# EAGLE library part POTENTIOMETER-DPDT (library Potentiometers)
Potentiometer with DPDT switch
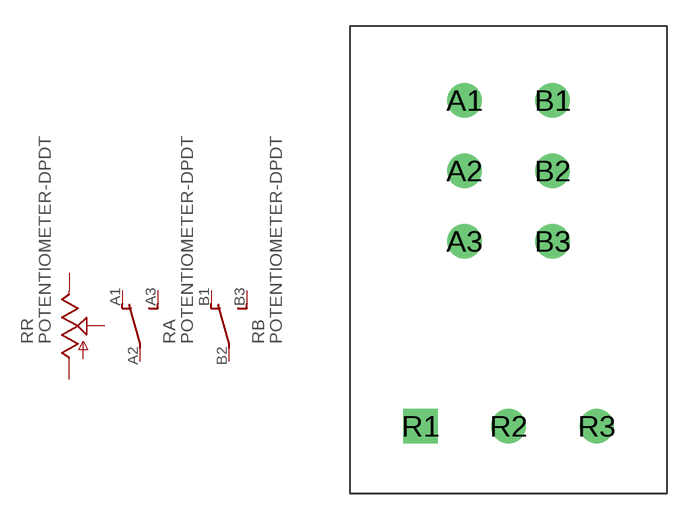
[diagram p1: symbol with the pads of POT-SIDE-DPDT-ALPHA-RV16BF; footprint POT-SIDE-DPDT-ALPHA-RV16BF]

Designator prefix R; gates R=POTENTIOMETER A=SPDT B=SPDT

## POTENTIOMETER-DPDT  [POT-SIDE-DPDT-ALPHA-RV16BF]
A1  A:1  pas
A2  A:2  pas
A3  A:3  pas
B1  B:1  pas
B2  B:2  pas
B3  B:3  pas
R1  R:1  pas
R2  R:2  pas
R3  R:3  pas

## POTENTIOMETER-DPDTHORIZONTAL  [POT-SIDE-DPDT-ALPHA-RV16BF]
Pads as for POT-SIDE-DPDT-ALPHA-RV16BF

## Footprint POT-SIDE-DPDT-ALPHA-RV16BF (pad centres in mm)
Potentiometer, with DPDT, 1.3mm drill, 5mm & 4mm lead spacing, Alpha RV16BF-20
drill 1.3 round: A1 -2.5,22.3; A2 -2.5,18.3; A3 -2.5,14.3; B1 2.5,22.3; B2 2.5,18.3; B3 2.5,14.3; R2 0,3.8; R3 5,3.8
drill 1.3 square: R1 -5,3.8